# Altium footprint library Arduino.PcbLib: 26 footprints (part 2 of 2)
Each footprint in its own frame and in the unit in brackets; x right, y up, seen from the top. Pads: shape width x height; smd on the part's side, far side on the other; paste and mask are expansions set on the pad; w line width, h text height; cw(c..) or ccw(c..) is an arc to the next point about the centre after c.
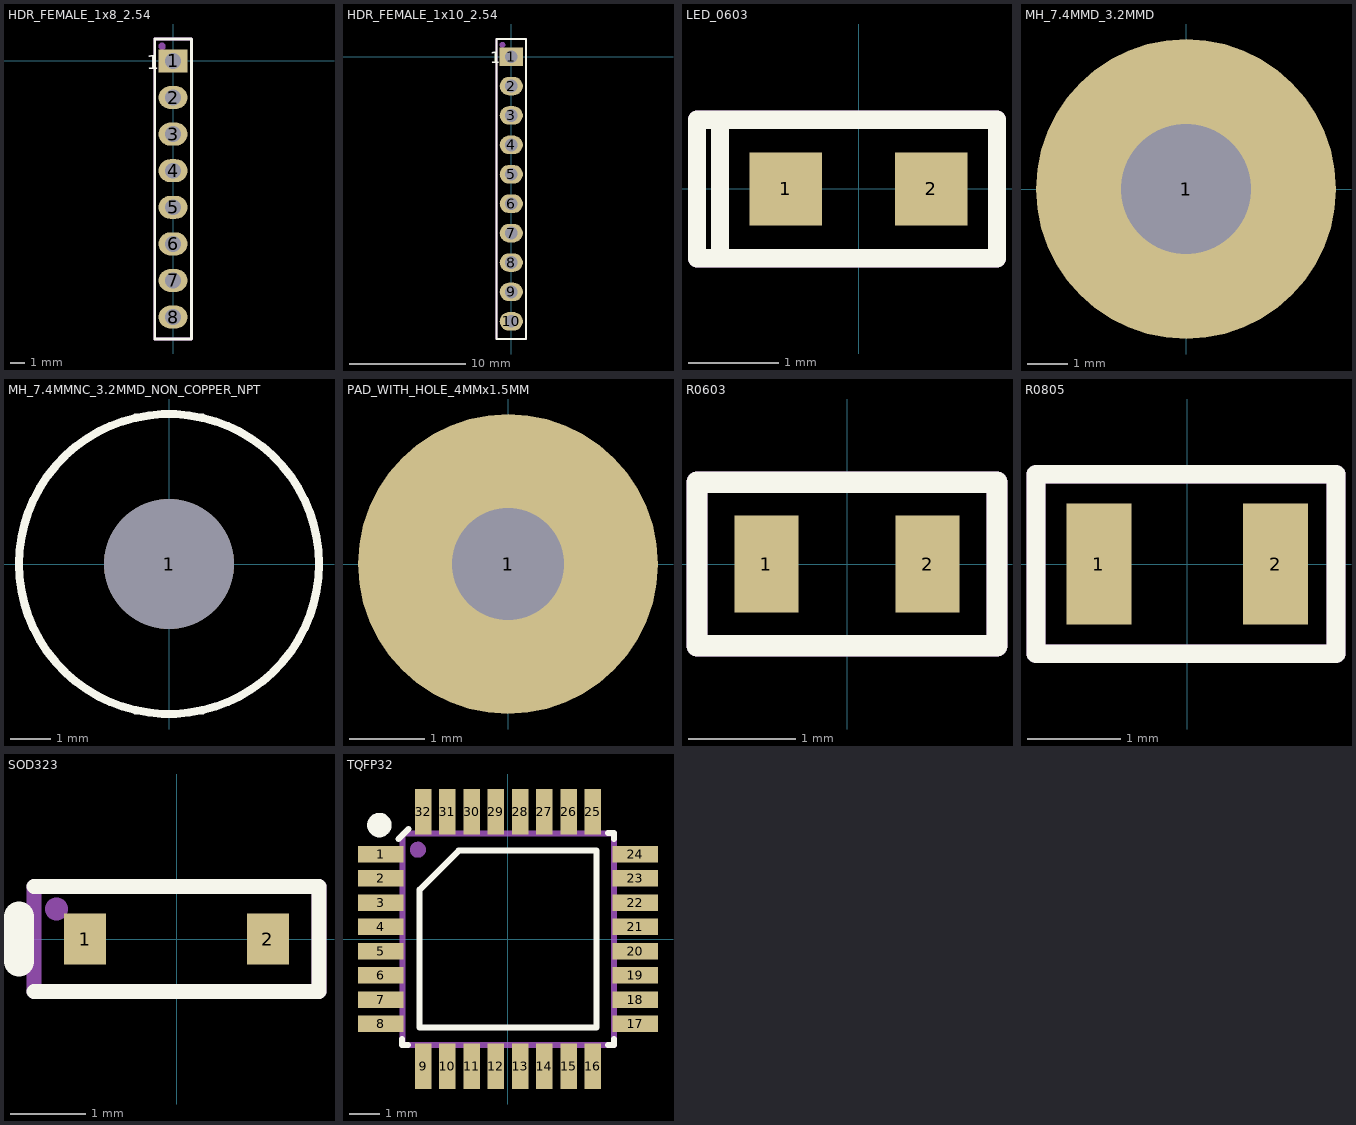
[diagram p1: the footprints below, top view; thin cyan lines are the x and y axes]

## HDR_FEMALE_1x8_2.54 [mm]
pads (8):
  rect 2x1.6 hole 1.1: 1(0,0)
  oval 2x1.6 hole 1.1: 2(0,-2.54) 3(0,-5.08) 4(0,-7.62) 5(0,-10.16) 6(0,-12.7) 7(0,-15.24) 8(0,-17.78)
Top Overlay:
  lines w0.2: -1.27,-19.304 1.27,-19.304 1.27,1.524 -1.27,1.524 -1.27,-19.304
  text "1" at -1.832,-0.562 h1
Mechanical 29:
  circle w0.254: c-0.762,1.016 r0.127
  lines w0.2: 0.635,-19.304 -1.27,-19.304 ; -1.27,-19.304 -1.27,1.524 1.27,1.524 1.27,-19.304 ; -1.27,-19.304 1.27,-19.304 ; -1.27,-19.304 1.27,-19.304
  text ".Designator" at 0.416,-11.738 h1.2
3D body "m20-7820842_asm.stp": height 8.51, standoff -2.99, extent -1.27,-19.25 1.23,1.47

## HDR_FEMALE_1x10_2.54 [mm]
pads (10):
  rect 2x1.6 hole 1.1: 1(0,0)
  oval 2x1.6 hole 1.1: 2(0,-2.54) 3(0,-5.08) 4(0,-7.62) 5(0,-10.16) 6(0,-12.7) 7(0,-15.24) 8(0,-17.78) 9(0,-20.32) 10(0,-22.86)
Top Overlay:
  lines w0.2: -1.27,-24.384 -1.27,1.524 1.27,1.524 1.27,-24.384 -1.27,-24.384
  text "1" at -1.832,-0.562 h1
Mechanical 29:
  circle w0.254: c-0.762,1.016 r0.127
  lines w0.2: -1.27,-24.384 1.27,-24.384 1.27,1.524 -1.27,1.524 -1.27,-24.384
  text ".Designator" at 0.416,-11.738 h1.2
3D body "m20-7821046_asm.stp": height 8.51, standoff -2.99, extent -1.25,-24.33 1.25,1.47

## LED_0603 [mm]
pads (2):
  rect 0.8x0.8 smd: 1(-0.8,0) 2(0.8,0)
Top Overlay:
  lines w0.2: -1.778,-0.508 -1.778,0.762 ; -1.778,0.762 -1.524,0.762 ; -1.778,0.762 -1.778,-0.762 -1.524,-0.762 ; -1.524,-0.762 1.524,-0.762 1.524,0.762 -1.524,0.762 ; -1.524,-0.762 -1.524,0.762
Mechanical 29:
  lines w0.2: -1.524,-0.762 -1.524,0.762 ; -1.778,0.762 -1.524,0.762 ; -1.778,0.762 -1.524,0.762 ; -1.778,0.762 -1.778,-0.762 1.524,-0.762 1.524,0.762 -1.524,0.762
  text ".designator" at -1.17,-0.208 h0.6
3D body "User Library-LED SMD0603.step": height 0.68, standoff 0, extent -0.97,-0.368 0.68,0.357

## MH_7.4MMD_3.2MMD [mm]
pads (1):
  round 7.4 hole 3.2: 1(0,0)

## MH_7.4MMNC_3.2MMD_NON_COPPER_NPT [mm]
pads (1):
  round 3.2 hole 3.2 unplated: 1(0,0)
Top Overlay:
  circle w0.2: c0,0 r3.7

## PAD_WITH_HOLE_4MMx1.5MM [mm]
pads (1):
  round 4 hole 1.5: 1(0,0)

## R0603 [mm]
pads (2):
  rect 0.6x0.9 smd: 1(-0.75,0) 2(0.75,0)
Top Overlay:
  lines w0.2: -1.397,-0.762 1.397,-0.762 1.397,0.762 -1.397,0.762 -1.397,-0.762
Mechanical 29:
  lines w0.2: -1.397,-0.762 1.397,-0.762 1.397,0.762 -1.397,0.762 -1.397,-0.762
  text ".designator" at -0.383,-0.03 h0.6
3D body "R0603.step": height 0.81, standoff 0.01, extent -0.8,-0.408 0.8,0.432

## R0805 [mm]
pads (2):
  rect 0.7x1.3 smd: 1(-0.95,0) 2(0.95,0)
Top Overlay:
  lines w0.2: -1.626,-0.965 1.6,-0.965 1.6,0.965 -1.626,0.965 ; -1.626,-0.94 -1.626,0.94
Mechanical 29:
  lines w0.2: -1.626,-0.965 1.6,-0.965 1.6,0.965 -1.626,0.965 -1.626,-0.965
  text ".designator" at -0.865,-0.226 h0.7
3D body "User Library-CR2012-0805.step": height 0.61, standoff 0.01, extent -0.975,-0.625 1.025,0.625

## SOD323 [mil]
pads (2):
  rect 22x27 smd: 1(-48,0) 2(48,0)
Top Overlay:
  lines w7.87: -74.8,-27.56 74.8,-27.56 74.8,27.56 -74.8,27.56
  lines w15.75: -82.68,-11.81 -82.68,11.81
Mechanical 29:
  circle w10: c-62.99,15.75 r0.98
  lines w7.87: -74.8,-27.56 -74.8,27.56 74.8,27.56 74.8,-27.56 -74.8,-27.56
  text ".designator" at 0,-1.31 h19.68
3D body "User Library-SOD-323F.STEP": height 31.13, standoff -3.3, extent -56.1,-26.57 50.2,26.57

## TQFP32 [mm]
pads (32):
  rect 1.5x0.55 smd mask+0.06: 1(-4.2,2.8) 2(-4.2,2) 3(-4.2,1.2) 4(-4.2,0.4) 5(-4.2,-0.4) 6(-4.2,-1.2) 7(-4.2,-2) 8(-4.2,-2.8) 17(4.2,-2.8) 18(4.2,-2) 19(4.2,-1.2) 20(4.2,-0.4) 21(4.2,0.4) 22(4.2,1.2) 23(4.2,2) 24(4.2,2.8)
  rect 0.55x1.5 smd mask+0.06: 9(-2.8,-4.2) 10(-2,-4.2) 11(-1.2,-4.2) 12(-0.4,-4.2) 13(0.4,-4.2) 14(1.2,-4.2) 15(2,-4.2) 16(2.8,-4.2) 25(2.8,4.2) 26(2,4.2) 27(1.2,4.2) 28(0.4,4.2) 29(-0.4,4.2) 30(-1.2,4.2) 31(-2,4.2) 32(-2.8,4.2)
Top Overlay:
  circle w0.5: c-4.242,3.759 r0.155
  lines w0.2: -3.607,3.302 -3.277,3.632 ; -3.505,-3.302 -3.505,-3.505 -3.302,-3.505 ; 3.302,-3.505 3.505,-3.505 3.505,-3.302 ; 3.302,3.505 3.505,3.505 3.505,3.302 ; -2.915,-2.915 -2.915,1.63 -1.63,2.915 2.915,2.915 2.915,-2.915 -2.915,-2.915
Mechanical 29:
  circle w0.254: c-2.972,2.946 r0.137
  lines w0.2: -3.48,-3.505 3.505,-3.505 3.505,3.48 -3.429,3.48 -3.48,3.429 -3.48,-3.505
  text ".designator" at -1.629,-0.229 h1
3D body "User Library-tqfp32.step": height 1.2, standoff 0, extent -4.599,-4.601 4.599,4.597